# EAGLE library part MAX3373 (library 000001)
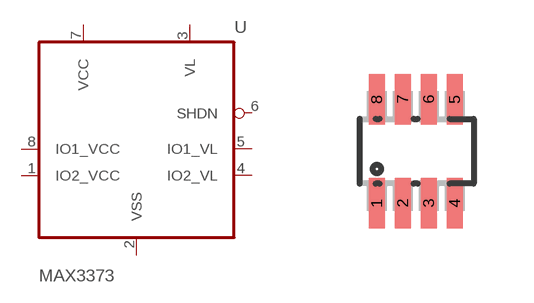
[diagram p43: symbol with the pads of SOT23-8; footprint SOT23-8]

Designator prefix -

## MAX3373SOT23-8  [SOT23-8]
1  IO2_VCC
2  VSS  pwr
3  VL  pwr
4  IO2_VL
5  IO1_VL
6  SHDN
7  VCC
8  IO1_VCC

## Footprint SOT23-8 (pad centres in mm)
smd 0.406 x 1.27: 1 -1,-1.3; 2 -0.35,-1.3; 3 0.3,-1.3; 4 0.95,-1.3; 5 0.95,1.3; 6 0.3,1.3; 7 -0.35,1.3; 8 -1,1.3